# EAGLE library part MAX1758 (library Railstars)
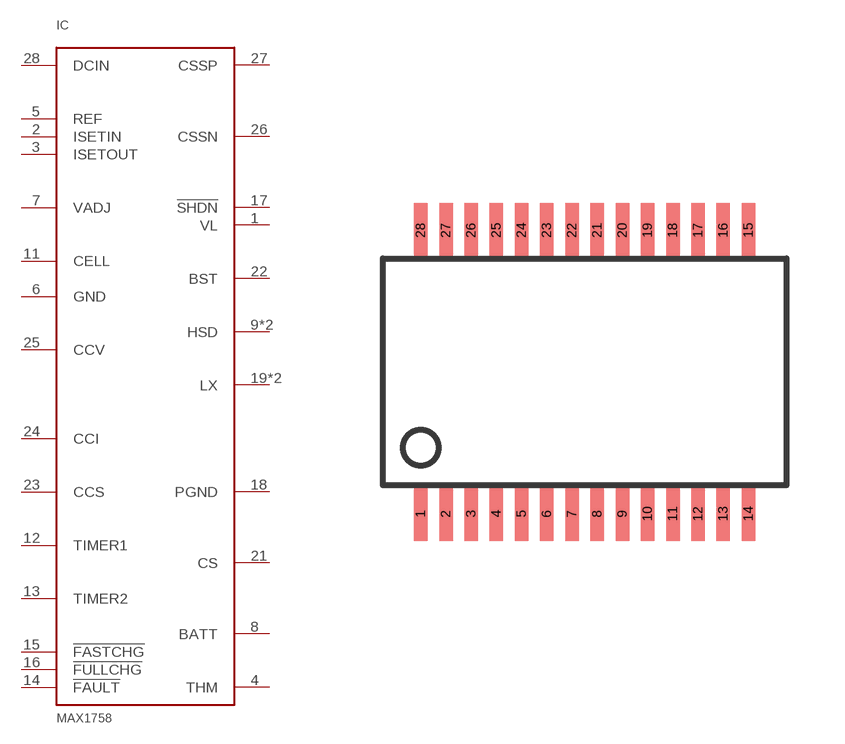
[diagram p11: symbol with the pads of SSOP28DB; footprint SSOP28DB]

Designator prefix IC

## MAX1758  [SSOP28DB]
1  VL
2  ISETIN
3  ISETOUT
4  THM
5  REF
6  GND
7  VADJ
8  BATT
9  HSD
10  HSD
11  CELL
12  TIMER1
13  TIMER2
14  !FAULT
15  !FASTCHG
16  !FULLCHG
17  !SHDN
18  PGND
19  LX
20  LX
21  CS
22  BST
23  CCS
24  CCI
25  CCV
26  CSSN
27  CSSP
28  DCIN

## Footprint SSOP28DB (pad centres in mm)
Small Shrink Outline Package
smd 0.348 x 1.397: 1 -4.225,-3.656; 2 -3.575,-3.656; 3 -2.925,-3.656; 4 -2.275,-3.656; 5 -1.625,-3.656; 6 -0.975,-3.656; 7 -0.325,-3.656; 8 0.325,-3.656; 9 0.975,-3.656; 10 1.625,-3.656; 11 2.275,-3.656; 12 2.925,-3.656; 13 3.575,-3.656; 14 4.225,-3.656; 15 4.225,3.656; 16 3.575,3.656; 17 2.925,3.656; 18 2.275,3.656; 19 1.625,3.656; 20 0.975,3.656; 21 0.325,3.656; 22 -0.325,3.656; 23 -0.975,3.656; 24 -1.625,3.656; 25 -2.275,3.656; 26 -2.925,3.656; 27 -3.575,3.656; 28 -4.225,3.656